# Altium schematic symbol library MMBT3904-7-F.SchLib: 1 symbol
Pins are listed as number, name and electrical type; pins without a type are passive.

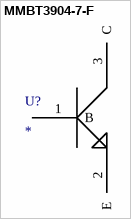
[diagram p0: symbol MMBT3904-7-F]

## MMBT3904-7-F
designator U?
No Description Available; Mfr_Name: Diodes Inc; RefDes: RefDes; Type: Type
footprint SOT-23_1_DIO
pins: 1 B, 2 E, 3 C